# Altium schematic symbol library followEm.SchLib: 4 symbols
Pins are listed as number, name and electrical type; pins without a type are passive.

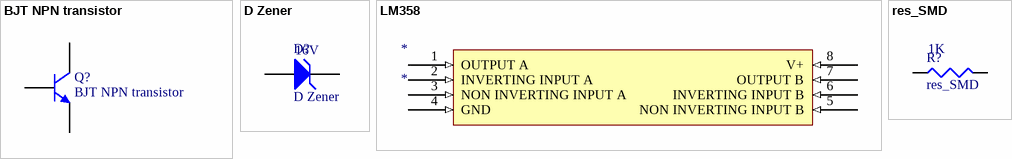
[diagram p0: symbols BJT NPN transistor to res_SMD]

## BJT NPN transistor
designator Q?
NPN General Purpose Amplifier; Published: 8-Jun-2000; LatestRevisionDate: 15-Jan-2003; LatestRevisionNote: PCB Footprint 'BCY-W3/D4.7' replaced; DatasheetVersion: 1997; PackageVersion: Sep-1998; PackageReference: TO-92A; Publisher: Altium Limited; PackageDescription: TO, Flat Index; 3 In-Line, Axial Leads; Body Dia. 4.5mm; Leads 0.51 x 0.48 mm (max); ComponentLink1Description: Manufacturer Link; ComponentLink1URL: http://www.fairchildsemi.com/; ComponentLink2Description: Datasheet; ComponentLink2URL: http://www.fairchildsemi.com/ds/2N%2F2N3904.pdf
footprint TO-220-AB (TO, Thru-Hole, Vertical, Heatsink Mounted; 3 In-Line Leads; Pitch 2.54 mm)
pins: 1 B, 2 C, 3 E

## D Zener
designator D?  value 16V
Zener Diode
footprint DO-214AC (SMA PACKAGE)
footprint DIODE-TH (Diode, Thru-Hole; 2 Leads; 0.4 in Pin Spacing)
pins: 1 A, 2 K

## LM358
designator *
footprint SOIC-8
pins: 1 OUTPUT A (in), 2 INVERTING INPUT A (in), 3 NON INVERTING INPUT A (in), 4 GND (in), 5 NON INVERTING INPUT B (in), 6 INVERTING INPUT B (in), 7 OUTPUT B (in), 8 V+ (in)

## res_SMD
designator R?  value 1K
Resistor; Published: 8-Jun-2000; LatestRevisionDate: 29-May-2009; LatestRevisionNote: IPC-7351 Footprint Added.; PackageReference: J1-0603; Publisher: Altium Limited; PackageDescription: Chip Resistor
footprint RES 0805 2012 (Chip Resistor, 2-Leads, Body 2,00x1,20mm, IPC Medium Density)
pins: 1, 2